# EAGLE library part LTC1257* (library linear-technology-2)
Complete Single Supply 12-Bit Voltage Output DAC
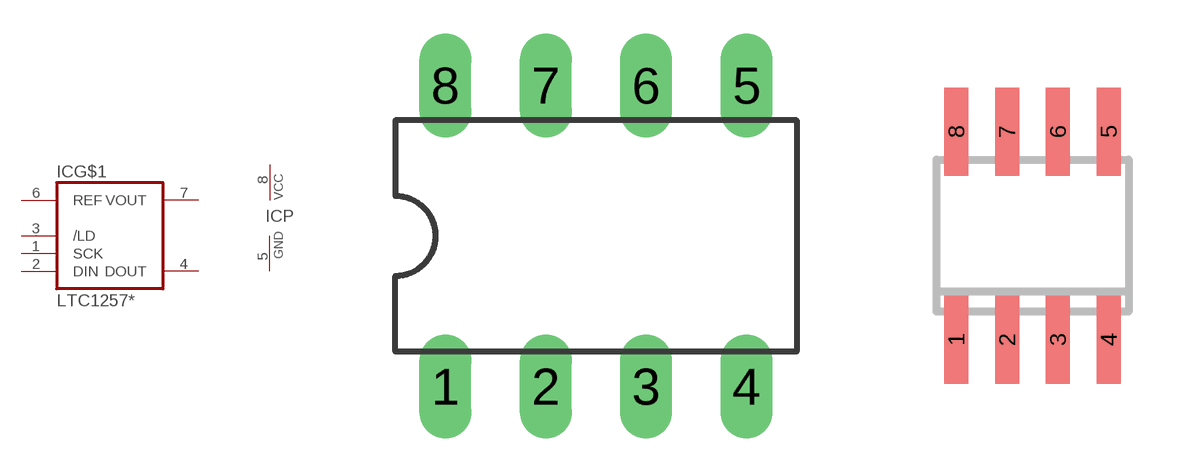
[diagram p19: symbol with the pads of DIL08; footprints DIL08, SO08]

Designator prefix IC; gates G$1=LTC1257 P=PWRN-C-G

## LTC1257CN8, LTC1257IN8  [DIL08]
1  G$1:SCK
2  G$1:DIN
3  G$1:/LD
4  G$1:DOUT
5  P:GND  pwr
6  G$1:REF
7  G$1:VOUT
8  P:VCC  pwr

## LTC1257CS8, LTC1257IS8  [SO08]
Pads as for DIL08

## Footprint DIL08 (pad centres in mm)
Dual In Line Package
drill 0.813 long: 1 -3.81,-3.81; 2 -1.27,-3.81; 3 1.27,-3.81; 4 3.81,-3.81; 5 3.81,3.81; 6 1.27,3.81; 7 -1.27,3.81; 8 -3.81,3.81

## Footprint SO08 (pad centres in mm)
Small Outline IC
smd 0.6 x 2.2: 1 -1.905,-2.6; 2 -0.635,-2.6; 3 0.635,-2.6; 4 1.905,-2.6; 5 1.905,2.6; 6 0.635,2.6; 7 -0.635,2.6; 8 -1.905,2.6